# Altium schematic symbol library 1206_Chip_Resistor.SchLib: 1 symbol
Pins are listed as number, name and electrical type; pins without a type are passive.

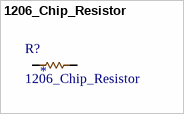
[diagram p0: symbol 1206_Chip_Resistor]

## 1206_Chip_Resistor
designator R?
1206 Chip Resistor - Surface Mount ROHS; LCSC: *
footprint 1206_Chip_Resistor
pins: 1, 2